# Altium footprint library PcbLib.PcbLib: 9 footprints
Each footprint in its own frame and in the unit in brackets; x right, y up, seen from the top. Pads: shape width x height; smd on the part's side, far side on the other; paste and mask are expansions set on the pad; w line width, h text height; cw(c..) or ccw(c..) is an arc to the next point about the centre after c.
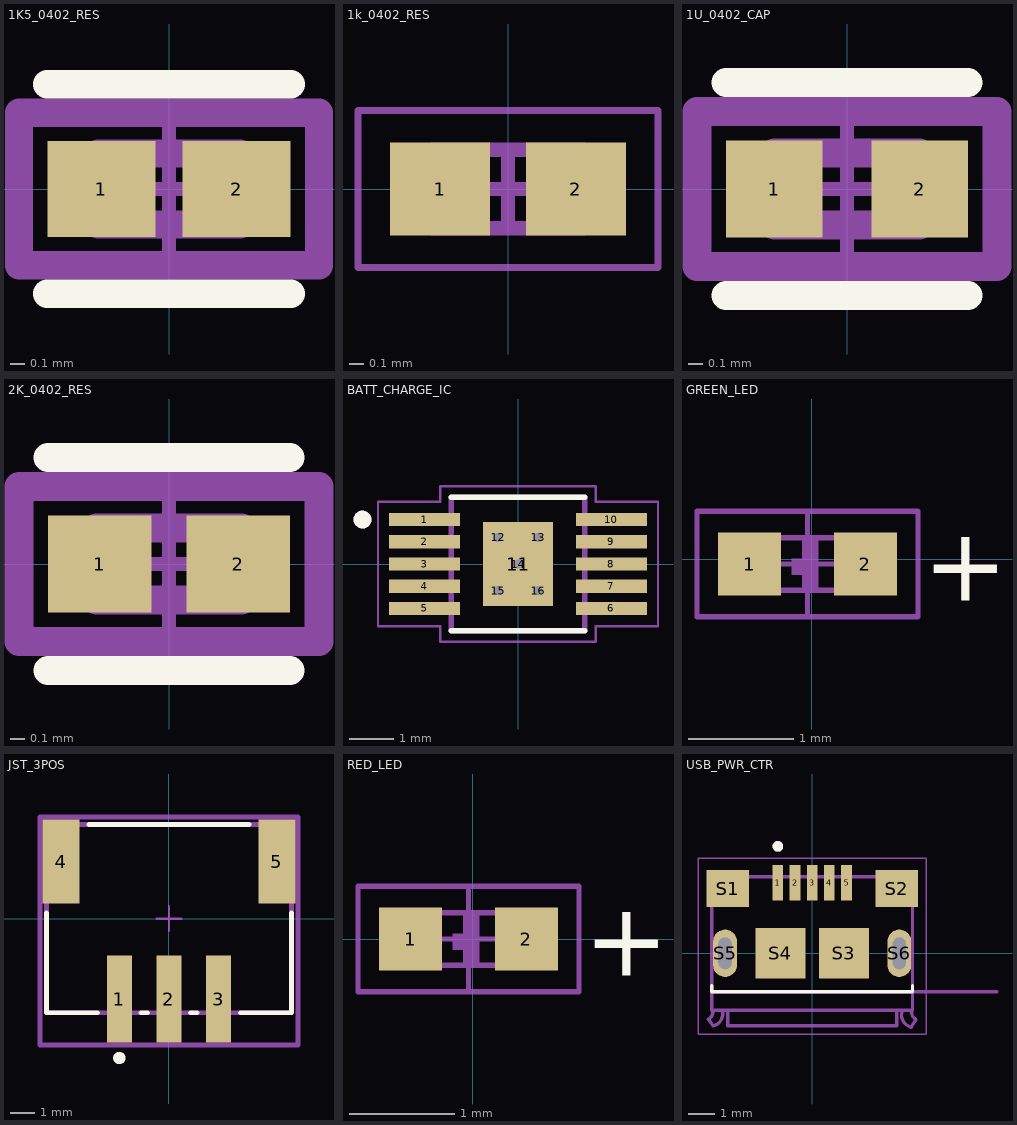
[diagram p0: the footprints below, top view; thin cyan lines are the x and y axes]

## 1K5_0402_RES [mm]
pads (2):
  rect 0.76x0.672 smd paste+0 mask+0: 1(-0.476,0) 2(0.476,0)
Top Overlay:
  lines w0.2: -0.856,-0.736 0.856,-0.736 ; -0.856,0.736 0.856,0.736
Top Component Center:
  lines w0.1: -0.5,0 0.5,0 ; 0,-0.5 0,0.5
Top Assembly:
  lines w0.2: -1.056,-0.536 1.056,-0.536 1.056,0.536 -1.056,0.536 -1.056,-0.536
Top 3D Body:
  lines w0.2: -0.5,-0.25 0.5,-0.25 0.5,0.25 -0.5,0.25 -0.5,-0.25
Top Courtyard:
  lines w0.2: -1.056,-0.536 1.056,-0.536 1.056,0.536 -1.056,0.536 -1.056,-0.536
3D body "Res_Yageo_RT0402BRE07118KL_eec.STEP": height 0.25, standoff 0, extent -1.056,-0.536 1.056,0.536

## 1k_0402_RES [mm] "Chip Resistor, 2-Leads, Body 1.00x0.50mm, IPC Low Density"
height 0.4
pads (2):
  rect 0.7x0.65 smd: 1(-0.475,0) 2(0.475,0)
Top 3D Body:
  lines w0.1: -0.525,-0.275 -0.525,0.275 0.525,0.275 0.525,-0.275 -0.525,-0.275
Top Courtyard:
  lines w0.05: -1.05,-0.55 -1.05,0.55 1.05,0.55 1.05,-0.55 -1.05,-0.55
  lines w0.1: -0.275,0 0.275,0 ; 0,-0.275 0,0.275
3D body: height 0.4, standoff 0, extent -0.275,-0.275 0.275,0.275
3D body: height 0.4, standoff 0, extent -0.525,-0.275 -0.275,0.275
3D body: height 0.4, standoff 0, extent 0.275,-0.275 0.525,0.275

## 1U_0402_CAP [mm]
pads (2):
  rect 0.668x0.672 smd paste+0 mask+0: 1(-0.502,0) 2(0.502,0)
Top Overlay:
  lines w0.2: -0.836,-0.736 0.836,-0.736 ; -0.836,0.736 0.836,0.736
Top Component Center:
  lines w0.1: -0.5,0 0.5,0 ; 0,-0.5 0,0.5
Top Assembly:
  lines w0.2: -1.036,-0.536 1.036,-0.536 1.036,0.536 -1.036,0.536 -1.036,-0.536
Top 3D Body:
  lines w0.2: -0.5,-0.25 0.5,-0.25 0.5,0.25 -0.5,0.25 -0.5,-0.25
Top Courtyard:
  lines w0.2: -1.036,-0.536 1.036,-0.536 1.036,0.536 -1.036,0.536 -1.036,-0.536
3D body "Cap_YAGEO_CC0402KRX7R9BB101_eec.STEP": height 0.25, standoff 0, extent -1.036,-0.536 1.036,0.536

## 2K_0402_RES [mm]
pads (2):
  rect 0.715x0.672 smd paste+0 mask+0: 1(-0.479,0) 2(0.479,0)
Top Overlay:
  lines w0.2: -0.836,-0.736 0.836,-0.736 ; -0.836,0.736 0.836,0.736
Top Component Center:
  lines w0.1: -0.5,0 0.5,0 ; 0,-0.5 0,0.5
Top Assembly:
  lines w0.2: -1.036,-0.536 -1.036,0.536 1.036,0.536 1.036,-0.536 -1.036,-0.536
Top 3D Body:
  lines w0.2: -0.5,-0.25 -0.5,0.25 0.5,0.25 0.5,-0.25 -0.5,-0.25
Top Courtyard:
  lines w0.2: -1.036,-0.536 -1.036,0.536 1.036,0.536 1.036,-0.536 -1.036,-0.536

## BATT_CHARGE_IC [mm]
pads (16):
  rect 1.6x0.3 smd paste-2 mask+0: 1(-2.1,1) 2(-2.1,0.5) 3(-2.1,0) 4(-2.1,-0.5) 5(-2.1,-1) 6(2.1,-1) 7(2.1,-0.5) 8(2.1,0) 9(2.1,0.5) 10(2.1,1)
  rect 1.57x1.88 smd: 11(0,0)
  round 0.4 hole 0.2 mask+0: 12(-0.45,0.6) 13(0.45,0.6) 14(0,0) 15(-0.45,-0.6) 16(0.45,-0.6)
Top Overlay:
  circle w0.2: c-3.5,1 r0.1
  lines w0.127: -1.5,-1.5 1.5,-1.5 ; -1.5,1.5 1.5,1.5
Top Paste:
  region: -1.325,0.875 -2.875,0.875 -2.875,1.125 -1.325,1.125
  region: -1.325,0.375 -2.875,0.375 -2.875,0.625 -1.325,0.625
  region: -1.325,-0.125 -2.875,-0.125 -2.875,0.125 -1.325,0.125
  region: -1.325,-0.625 -2.875,-0.625 -2.875,-0.375 -1.325,-0.375
  region: -1.325,-1.125 -2.875,-1.125 -2.875,-0.875 -1.325,-0.875
  region: 2.875,-1.125 1.325,-1.125 1.325,-0.875 2.875,-0.875
  region: 2.875,-0.625 1.325,-0.625 1.325,-0.375 2.875,-0.375
  region: 2.875,-0.125 1.325,-0.125 1.325,0.125 2.875,0.125
  region: 2.875,0.375 1.325,0.375 1.325,0.625 2.875,0.625
  region: 2.875,0.875 1.325,0.875 1.325,1.125 2.875,1.125
Top Solder:
  region: -1.25,0.8 -2.95,0.8 -2.95,1.2 -1.25,1.2
  region: -1.25,0.3 -2.95,0.3 -2.95,0.7 -1.25,0.7
  region: -1.25,-0.2 -2.95,-0.2 -2.95,0.2 -1.25,0.2
  region: -1.25,-0.7 -2.95,-0.7 -2.95,-0.3 -1.25,-0.3
  region: -1.25,-1.2 -2.95,-1.2 -2.95,-0.8 -1.25,-0.8
  region: 2.95,-1.2 1.25,-1.2 1.25,-0.8 2.95,-0.8
  region: 2.95,-0.7 1.25,-0.7 1.25,-0.3 2.95,-0.3
  region: 2.95,-0.2 1.25,-0.2 1.25,0.2 2.95,0.2
  region: 2.95,0.3 1.25,0.3 1.25,0.7 2.95,0.7
  region: 2.95,0.8 1.25,0.8 1.25,1.2 2.95,1.2
Top 3D Body:
  circle w0.2: c-3.5,1 r0.1
  lines w0.127: -1.5,-1.5 -1.5,1.5 1.5,1.5 1.5,-1.5 -1.5,-1.5
Top Courtyard:
  lines w0.05: -3.15,-1.4 -3.15,1.4 -1.75,1.4 -1.75,1.75 1.75,1.75 1.75,1.4 3.15,1.4 3.15,-1.4 1.75,-1.4 1.75,-1.75 -1.75,-1.75 -1.75,-1.4 -3.15,-1.4

## GREEN_LED [mm]
pads (2):
  rect 0.6x0.6 smd: 1(-0.589,-0.046) 2(0.511,-0.046)
Top Overlay:
  text "+" at 1.061,-0.396 h0.7
Top Component Outline:
  region: 0.061,0.204 0.061,-0.296 -0.089,-0.296 -0.089,-0.146 -0.189,-0.146 -0.189,0.004 -0.089,0.004 -0.089,0.204
  lines w0.05: -0.539,-0.296 0.461,-0.296 0.461,0.204 -0.539,0.204 -0.539,-0.296
Top Courtyard:
  lines w0.05: -0.539,-0.046 0.461,-0.046 ; -0.039,-0.546 -0.039,0.454 ; -1.089,-0.546 1.011,-0.546 1.011,0.454 -1.089,0.454 -1.089,-0.546
3D body "150040xx73240.stp": height 0.4, standoff 0, extent -0.539,-0.296 0.461,0.204

## JST_3POS [mm]
pads (5):
  rect 1x3.5 smd paste+0 mask+0: 1(-2,-3.25) 2(0,-3.25) 3(2,-3.25)
  rect 1.5x3.4 smd paste+0 mask+0: 4(-4.35,2.3) 5(4.35,2.3)
Top Overlay:
  circle w0.25: c-2,-5.625 r0.125
  lines w0.2: -4.95,0.225 -4.95,-3.8 -2.875,-3.8 ; -3.225,3.8 3.225,3.8 ; -1.125,-3.8 -0.875,-3.8 ; 0.875,-3.8 1.125,-3.8 ; 2.875,-3.8 4.95,-3.8 4.95,0.225
Top Component Center:
  lines w0.1: -0.5,0 0.5,0 ; 0,-0.5 0,0.5
Top Assembly:
  lines w0.2: -5.2,-5.1 5.2,-5.1 5.2,4.1 -5.2,4.1 -5.2,-5.1
Top 3D Body:
  lines w0.2: -4.95,-3.8 4.95,-3.8 4.95,3.8 -4.95,3.8 -4.95,-3.8
Top Courtyard:
  lines w0.2: -5.2,-5.1 5.2,-5.1 5.2,4.1 -5.2,4.1 -5.2,-5.1
3D body "Conn_JST_S3B-PH-SM4-TB_LF_SN_eec.STEP": height 0.25, standoff 0, extent -5.2,-5.1 5.2,4.1

## RED_LED [mm]
pads (2):
  rect 0.6x0.6 smd: 1(-0.589,0) 2(0.511,0)
Top Overlay:
  text "+" at 1.061,-0.35 h0.7
Top Component Outline:
  region: 0.061,0.25 0.061,-0.25 -0.089,-0.25 -0.089,-0.1 -0.189,-0.1 -0.189,0.05 -0.089,0.05 -0.089,0.25
  lines w0.05: -0.539,-0.25 -0.539,0.25 0.461,0.25 0.461,-0.25 -0.539,-0.25
Top Courtyard:
  lines w0.05: -0.539,0 0.461,0 ; -0.039,-0.5 -0.039,0.5 ; -1.089,-0.5 -1.089,0.5 1.011,0.5 1.011,-0.5 -1.089,-0.5
3D body "150040xx73240.stp": height 0.4, standoff 0, extent -0.539,-0.25 0.461,0.25

## USB_PWR_CTR [mm]
height 2.55
pads (11):
  rect 0.4x1.35 smd: 1(-1.3,2.675) 2(-0.65,2.675) 3(0,2.675) 4(0.65,2.675) 5(1.3,2.675)
  rect 1.6x1.4 smd: S1(-3.2,2.45) S2(3.2,2.45)
  rect 1.9x1.9 smd: S3(1.2,0) S4(-1.2,0)
  oval 0.9x1.8 hole 0.5 slot 1.2 at 90 deg: S5(-3.3,0) S6(3.3,0)
Top Overlay:
  circle w0.2: c-1.3,4.05 r0.1
  lines w0.127: -3.8,-1.22 -3.8,-1.45 3.8,-1.45 3.8,-1.22
Top 3D Body:
  circle w0.2: c-1.3,4.05 r0.1
  lines w0.127: -3.93,-2.5 -3.75,-2.75 ; -3.93,-2.5 ccw(c-4.065,-2.235) -3.8,-2.1 ; -3.8,-1.45 3.8,-1.45 ; -3.746,-2.749 ccw(c-3.85,-2.3) -3.401,-2.196 ; -3.2,-2.2 -3.2,-2.75 3.2,-2.75 3.2,-2.2 ; 3.401,-2.198 ccw(c3.875,-2.325) 3.748,-2.799 ; 3.75,-2.8 3.93,-2.5 ; 3.8,-2.1 ccw(c4.065,-2.235) 3.93,-2.5 ; 7,-1.45 3.8,-1.45 ; -3.8,-2.1 -3.8,-2.15 3.8,-2.15 3.8,-1.45 ; -3.8,-2.1 -3.8,2.9 3.8,2.9 3.8,-1.45
  text "PCB END" at 4.85,-1.2 h0.41
Top Courtyard:
  lines w0.05: -4.32,-3.066 -4.32,3.6 4.32,3.6 4.32,-3.066 -4.32,-3.066